# EAGLE library part DAT-31R5-SP+ (library mini-circuits)
Digital Step Attenuator
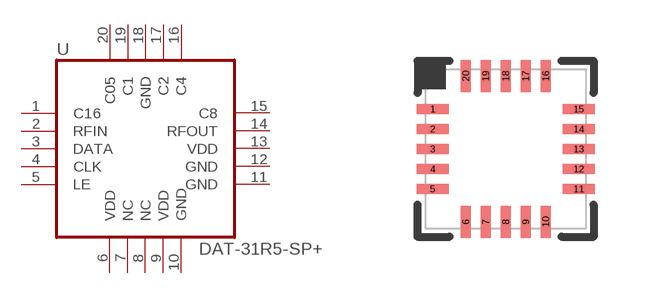
[diagram p1: symbol with the pads of QFN20-DG983-1; footprint QFN20-DG983-1]

Designator prefix U

## DAT-31R5-SP+  [QFN20-DG983-1]
1  C16  in
2  RFIN  in
3  DATA  in
4  CLK  in
5  LE  in
6  VDD  pwr
7  NC  nc
8  NC  nc
9  VDD  pwr
10  GND  pwr
11  GND  pwr
12  GND  pwr
13  VDD  pwr
14  RFOUT  out
15  C8  in
16  C4  in
17  C2  in
18  GND  pwr
19  C1  in
20  C05  in

## Footprint QFN20-DG983-1 (pad centres in mm)
QFN 20 PIN (DG983-1)
smd 0.81 x 0.25: 1 -1.825,1; 2 -1.825,0.5; 3 -1.825,0; 4 -1.825,-0.5; 5 -1.825,-1; 11 1.825,-1; 12 1.825,-0.5; 13 1.825,0; 14 1.825,0.5; 15 1.825,1
smd 0.25 x 0.81: 6 -1,-1.825; 7 -0.5,-1.825; 8 0,-1.825; 9 0.5,-1.825; 10 1,-1.825; 16 1,1.825; 17 0.5,1.825; 18 0,1.825; 19 -0.5,1.825; 20 -1,1.825